# EAGLE library part LM3S608 (library CEDTv77)
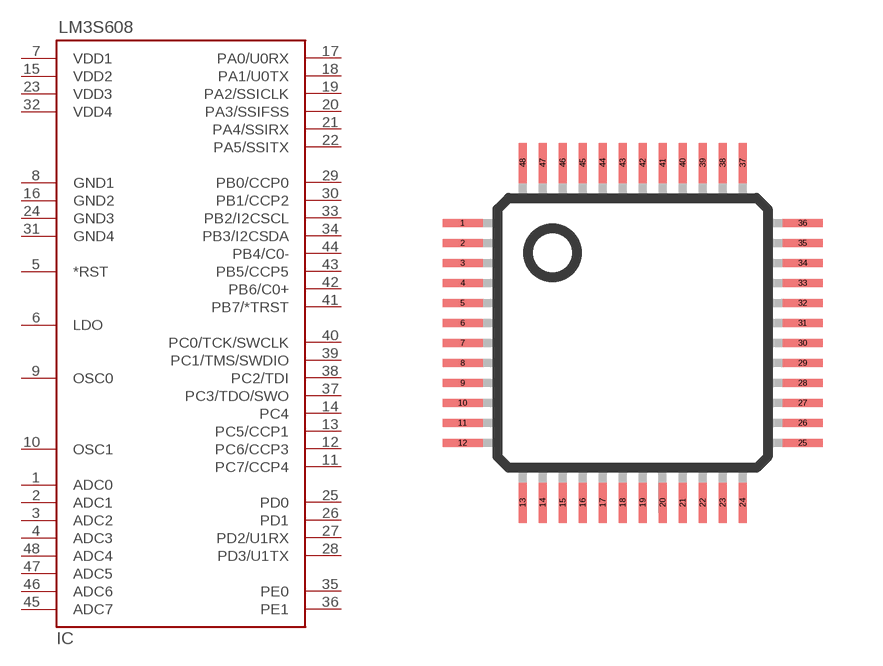
[diagram p49: symbol with the pads of LQFP48; footprint LQFP48]

Designator prefix IC

## LM3S608  [LQFP48]
1  ADC0  pas
2  ADC1  pas
3  ADC2  pas
4  ADC3  pas
5  *RST  pas
6  LDO  pas
7  VDD1  pas
8  GND1  pas
9  OSC0  pas
10  OSC1  pas
11  PC7/CCP4  pas
12  PC6/CCP3  pas
13  PC5/CCP1  pas
14  PC4  pas
15  VDD2  pas
16  GND2  pas
17  PA0/U0RX  pas
18  PA1/U0TX  pas
19  PA2/SSICLK  pas
20  PA3/SSIFSS  pas
21  PA4/SSIRX  pas
22  PA5/SSITX  pas
23  VDD3  pas
24  GND3  pas
25  PD0  pas
26  PD1  pas
27  PD2/U1RX  pas
28  PD3/U1TX  pas
29  PB0/CCP0  pas
30  PB1/CCP2  pas
31  GND4  pas
32  VDD4  pas
33  PB2/I2CSCL  pas
34  PB3/I2CSDA  pas
35  PE0  pas
36  PE1  pas
37  PC3/TDO/SWO  pas
38  PC2/TDI  pas
39  PC1/TMS/SWDIO  pas
40  PC0/TCK/SWCLK  pas
41  PB7/*TRST  pas
42  PB6/C0+  pas
43  PB5/CCP5  pas
44  PB4/C0-  pas
45  ADC7  pas
46  ADC6  pas
47  ADC5  pas
48  ADC4  pas

## Footprint LQFP48 (pad centres in mm)
48-pin Low Profile Quad Flat Pack
smd 1 x 0.2: 1 -4.25,2.75; 2 -4.25,2.25; 3 -4.25,1.75; 4 -4.25,1.25; 5 -4.25,0.75; 6 -4.25,0.25; 7 -4.25,-0.25; 8 -4.25,-0.75; 9 -4.25,-1.25; 10 -4.25,-1.75; 11 -4.25,-2.25; 12 -4.25,-2.75; 25 4.25,-2.75; 26 4.25,-2.25; 27 4.25,-1.75; 28 4.25,-1.25; 29 4.25,-0.75; 30 4.25,-0.25; 31 4.25,0.25; 32 4.25,0.75; 33 4.25,1.25; 34 4.25,1.75; 35 4.25,2.25; 36 4.25,2.75
smd 0.2 x 1: 13 -2.75,-4.25; 14 -2.25,-4.25; 15 -1.75,-4.25; 16 -1.25,-4.25; 17 -0.75,-4.25; 18 -0.25,-4.25; 19 0.25,-4.25; 20 0.75,-4.25; 21 1.25,-4.25; 22 1.75,-4.25; 23 2.25,-4.25; 24 2.75,-4.25; 37 2.75,4.25; 38 2.25,4.25; 39 1.75,4.25; 40 1.25,4.25; 41 0.75,4.25; 42 0.25,4.25; 43 -0.25,4.25; 44 -0.75,4.25; 45 -1.25,4.25; 46 -1.75,4.25; 47 -2.25,4.25; 48 -2.75,4.25